# EAGLE library part B2B-PH-K-S (library Con-JST-MFG)
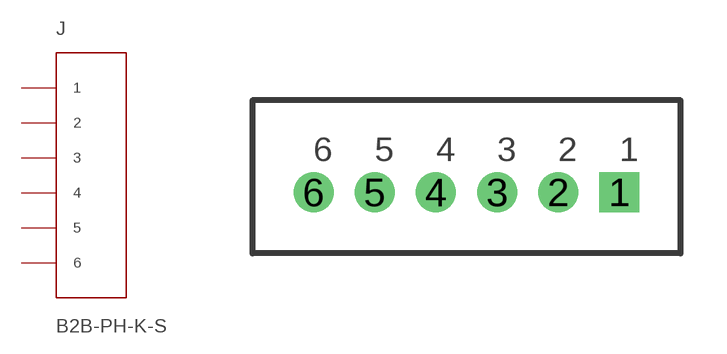
[diagram p0: symbol with the pads of B6B-PH-K-S; footprint B6B-PH-K-S]

Designator prefix J

## B2B-PH-K-S  [B6B-PH-K-S]
1  1
2  2
3  3
4  4
5  5
6  6

## Footprint B6B-PH-K-S (pad centres in mm)
drill 0.8 square: 1 0,0
drill 0.8: 2 -2,0; 3 -4,0; 4 -6,0; 5 -8,0; 6 -10,0